# Altium schematic symbol library UM982.SchLib: 1 symbol
Pins are listed as number, name and electrical type; pins without a type are passive.

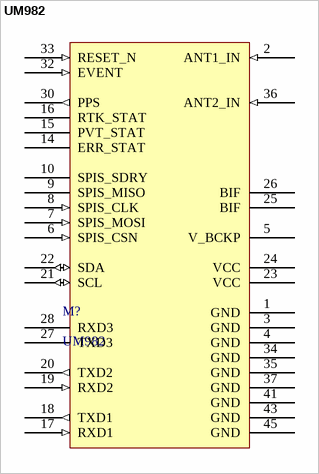
[diagram p0: symbol UM982]

## UM982
designator M?
All-constellation Multi-frequencyHigh Precision Positioning & Heading Module
footprint UM982
pins: 1 GND, 2 ANT1_IN (in), 3 GND, 4 GND, 5 V_BCKP, 6 SPIS_CSN (in), 7 SPIS_MOSI (in), 8 SPIS_CLK (in), 9 SPIS_MISO, 10 SPIS_SDRY, 14 ERR_STAT "Error status: active high;", 15 PVT_STAT "PVT status: active high;", 16 RTK_STAT "RTK status: active high;", 17 RXD1 (in), 18 TXD1 (out), 19 RXD2 (in), 20 TXD2 (out), 21 SCL (io), 22 SDA (io), 23 VCC (power), 24 VCC (power), 25 BIF "Built-in function", 26 BIF "Built-in function", 27 TXD3, 28 RXD3, 30 PPS (out), 32 EVENT (in), 33 RESET_N (in), 34 GND, 35 GND, 36 ANT2_IN (in), 37 GND, 41 GND, 43 GND, 45 GND